# Altium schematic symbol library HCPL-316J-500E.SchLib: 1 symbol
Pins are listed as number, name and electrical type; pins without a type are passive.

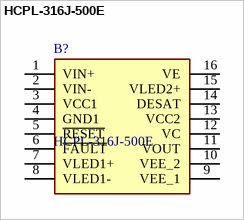
[diagram p0: symbol HCPL-316J-500E]

## HCPL-316J-500E
designator B?
2.5A Gate Driver Optical Coupling 5000Vrms 1 Channel 16-SO; Manufacturer_Name: Avago Technologies; Geometry.Height: 3.911mm; Mouser Part Number: 630-HCPL-316J-500E; Mouser Price/Stock: https://www.mouser.co.uk/ProductDetail/Broadcom-Avago/HCPL-316J-500E?qs=s%252BgfxR24RQ5bfr5kc6yRkw%3D%3D; Manufacturer_Part_Number: HCPL-316J-500E; Datasheet Link: https://docs.broadcom.com/doc/AV02-0717EN
footprint SOIC127P1036X391-16N
pins: 1 VIN+, 2 VIN-, 3 VCC1, 4 GND1, 5 ~{RESET}, 6 ~{FAULT}, 7 VLED1+, 8 VLED1-, 9 VEE_1, 10 VEE_2, 11 VOUT, 12 VC, 13 VCC2, 14 DESAT, 15 VLED2+, 16 VE